# EAGLE library part TXB0108 (library zortness)
TXB0108 Logic Level Shifter DigiKey PN 296-21527-1-ND <http://www.digikey.com/product-detail/en/TXB0108PWR/296-21527-1-ND/1305700>
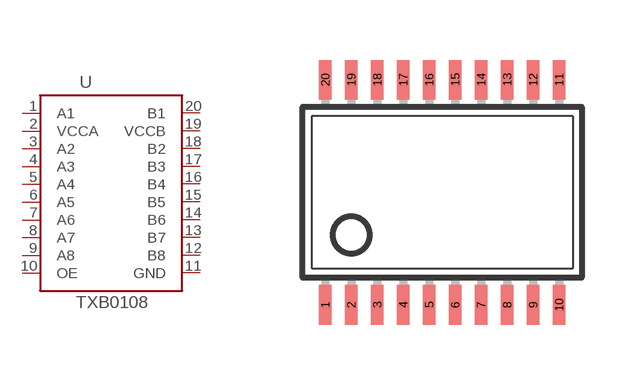
[diagram p5: symbol with the pads of TSSOP20; footprint TSSOP20]

Designator prefix U

## TXB0108  [TSSOP20]
1  A1
2  VCCA  pwr
3  A2
4  A3
5  A4
6  A5
7  A6
8  A7
9  A8
10  OE  pwr
11  GND  pwr
12  B8
13  B7
14  B6
15  B5
16  B4
17  B3
18  B2
19  VCCB  pwr
20  B1

## Footprint TSSOP20 (pad centres in mm)
Thin Shrink Small Outline Plastic 20 Source: http://www.lsicsi.com/pdfs/Drawings/TSSOP_OD.pdf
smd 0.305 x 0.991: 1 -2.925,-2.818; 2 -2.275,-2.818; 3 -1.625,-2.818; 4 -0.975,-2.818; 5 -0.325,-2.818; 6 0.325,-2.818; 7 0.975,-2.818; 8 1.625,-2.818; 9 2.275,-2.818; 10 2.925,-2.818; 11 2.925,2.818; 12 2.275,2.818; 13 1.625,2.818; 14 0.975,2.818; 15 0.325,2.818; 16 -0.325,2.818; 17 -0.975,2.818; 18 -1.625,2.818; 19 -2.275,2.818; 20 -2.925,2.818